# Altium footprint library Iot_Medicine.PcbLib: 7 footprints
Each footprint in its own frame and in the unit in brackets; x right, y up, seen from the top. Pads: shape width x height; smd on the part's side, far side on the other; paste and mask are expansions set on the pad; w line width, h text height; cw(c..) or ccw(c..) is an arc to the next point about the centre after c.
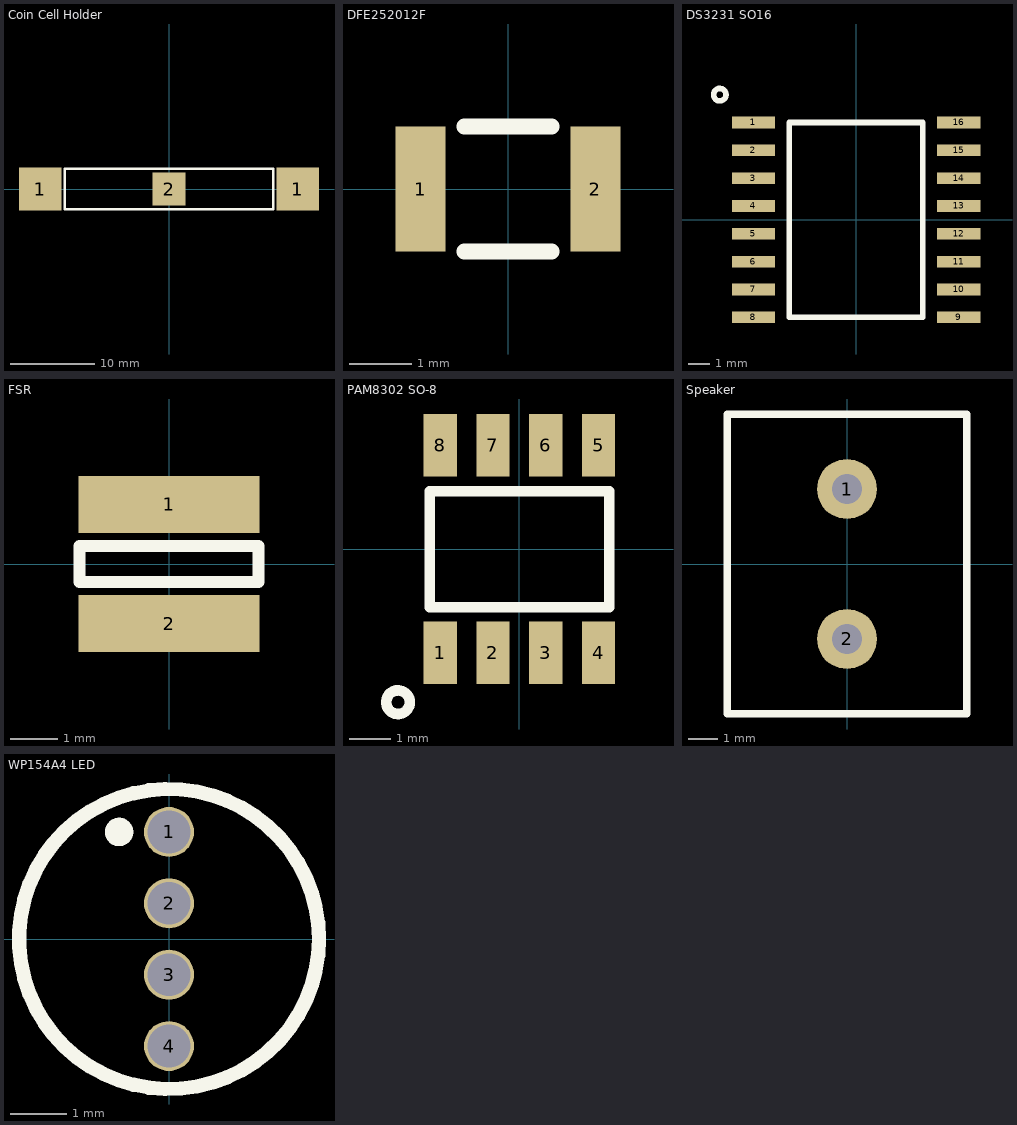
[diagram p0: the footprints below, top view; thin cyan lines are the x and y axes]

## Coin Cell Holder [mm]
height 3.3
pads (3):
  rect 5.08x5.08 smd: 1(-15.365,0) 1(15.365,0)
  rect 3.96x3.96 smd: 2(0,0)
Top Overlay:
  lines w0.254: -12.446,-2.413 7.62,-2.413 12.446,-2.413 12.446,2.413 -12.446,2.413 -12.446,-2.413

## DFE252012F [mm] "Power Inductor 1008"
pads (2):
  rect 0.8x2 smd: 1(-1.4,0) 2(1.4,0)
Top Overlay:
  lines w0.254: -0.7,-1 0.7,-1 ; -0.7,1 0.7,1

## DS3231 SO16 [mm]
pads (16):
  rect 1.98x0.53 smd: 1(-4.685,4.445) 2(-4.685,3.185) 3(-4.685,1.905) 4(-4.685,0.635) 5(-4.685,-0.635) 6(-4.685,-1.905) 7(-4.685,-3.175) 8(-4.685,-4.445) 9(4.685,-4.445) 10(4.685,-3.175) 11(4.685,-1.905) 12(4.685,-0.635) 13(4.685,0.635) 14(4.685,1.905) 15(4.685,3.175) 16(4.685,4.445)
Top Layer:
  region: -1.27,8.255
  region: -1.27,1.016
Top Overlay:
  circle w0.254: c-6.223,5.715 r0.284
  lines w0.254: -3.048,-4.445 -3.048,4.445 3.048,4.445 3.048,-4.445 -3.048,-4.445

## FSR [mm]
pads (2):
  rect 3.86x1.21 smd: 1(0,1.27) 2(0,-1.27)
Top Overlay:
  lines w0.254: -1.905,-0.381 1.905,-0.381 1.905,0.381 -1.905,0.381 -1.905,-0.381

## PAM8302 SO-8 [mm]
pads (8):
  rect 0.802x1.505 smd: 1(-1.905,-2.498) 2(-0.635,-2.498) 3(0.635,-2.498) 4(1.905,-2.498) 5(1.905,2.498) 6(0.635,2.498) 7(-0.635,2.498) 8(-1.905,2.498)
Top Overlay:
  circle w0.254: c-2.921,-3.683 r0.284
  lines w0.254: -2.159,-1.397 2.159,-1.397 2.159,1.397 -2.159,1.397 -2.159,-1.397

## Speaker [mil] "Screw terminal for 2 terminal speaker"
height 300
pads (2):
  round 80 hole 40: 1(0,100) 2(0,-100)
Top Overlay:
  lines w10: -160,-200 -160,200 160,200 160,-200 -160,-200

## WP154A4 LED [mil] "RGB LED"
height 338.58
pads (4):
  round 35 hole 30: 1(0,75) 2(0,25) 3(0,-25) 4(0,-75)
Top Overlay:
  circle w10: c0,0 r105.12
  circle w10: c-35,75 r5